# EAGLE library part LTC3606B (library PowerProducts)
800mA Synchronous Step-Down DC/DC with Average Input Current Limit
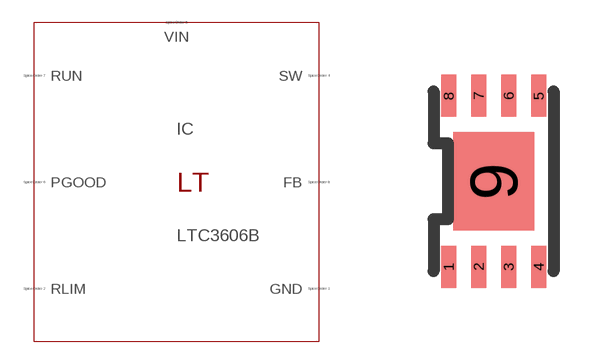
[diagram p261: symbol with the pads of DFN8(DD); footprint DFN8(DD)]

Designator prefix IC

## LTC3606B (SPICEMODEL: LTC3606B.sub; SPICEPREFIX: X; VALUE2: LTC3606B)  [DFN8(DD)]
1  GND  pas
2  RLIM  pas
3  GND  pas
4  SW  pas
5  VIN  pas
6  PGOOD  pas
7  RUN  pas
8  FB  pas
9  GND  pas

## Footprint DFN8(DD) (pad centres in mm)
Package generated from: DFN8(DD).asc (!PADS-POWERPCB-V5.0-BASIC! DESIGN DATABASE ASCII FILE 1.0) with :import-pads-powerpcb-v5.ulp Version 1.0.1 at 04.10.2012 14:11:17
smd 0.375 x 1.05: 1 -1.125,-2.138; 2 -0.375,-2.138; 3 0.375,-2.138; 4 1.125,-2.138; 5 1.125,2.138; 6 0.375,2.138; 7 -0.375,2.138; 8 -1.125,2.138
smd 2.025 x 2.475: 9 0,0